# Altium footprint library Библиотека_посадочных_мест.PcbLib: 25 footprints (part 1 of 2)
Each footprint in its own frame and in the unit in brackets; x right, y up, seen from the top. Pads: shape width x height; smd on the part's side, far side on the other; paste and mask are expansions set on the pad; w line width, h text height; cw(c..) or ccw(c..) is an arc to the next point about the centre after c.
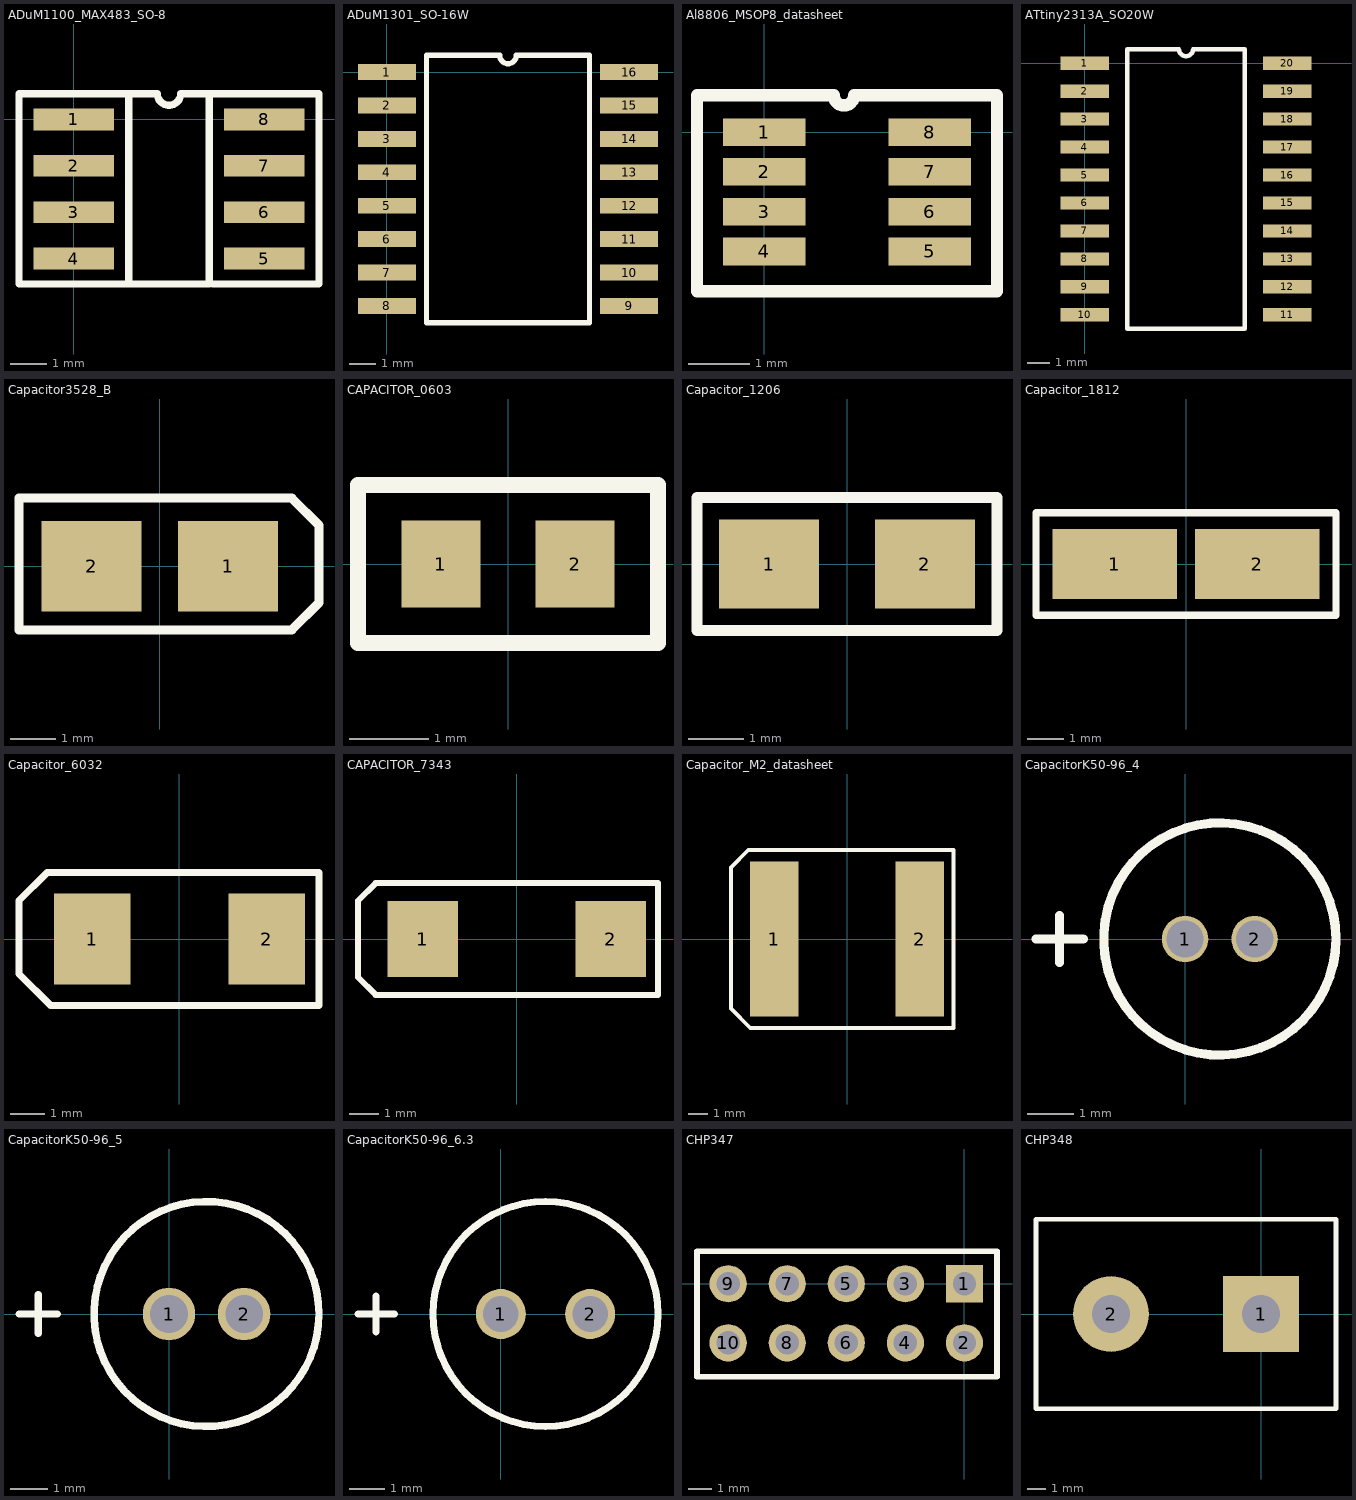
[diagram p0: the footprints below, top view; thin cyan lines are the x and y axes]

## ADuM1100_MAX483_SO-8 [mm] "ADuM1100"
pads (8):
  rect 2.2x0.6 smd: 1(0,0) 2(0,-1.27) 3(0,-2.54) 4(0,-3.81) 5(5.2,-3.81) 6(5.2,-2.54) 7(5.2,-1.27) 8(5.2,0)
Top Overlay:
  lines w0.2: 2.275,0.7 1.5,0.7 ; 2.282,0.7 ccw(c2.6,0.7) 2.917,0.7 ; 2.925,0.7 3.7,0.7 ; 3.8,-4.5 6.7,-4.5 6.7,0.7 3.7,0.7 ; 1.5,-4.5 1.5,0.7 ; 1.5,-4.5 3.7,-4.5 3.7,0.7 ; 1.5,-4.5 -1.5,-4.5 -1.5,0.7 1.5,0.7

## ADuM1301_SO-16W [mm] "ADuM1301"
pads (16):
  rect 2.2x0.6 smd: 1(0,0) 2(0,-1.27) 3(0,-2.54) 4(0,-3.81) 5(0,-5.08) 6(0,-6.35) 7(0,-7.62) 8(0,-8.89) 9(9.2,-8.89) 10(9.2,-7.62) 11(9.2,-6.35) 12(9.2,-5.08) 13(9.2,-3.81) 14(9.2,-2.54) 15(9.2,-1.27) 16(9.2,0)
Top Overlay:
  lines w0.2: 1.5,-9.525 7.7,-9.525 7.7,0.635 4.917,0.635 cw(c4.6,0.635) 4.282,0.635 1.5,0.635 1.5,-9.525

## Al8806_MSOP8_datasheet [mm]
pads (8):
  rect 1.35x0.45 smd: 1(0,0) 2(0,-0.65) 3(0,-1.3) 4(0,-1.95) 5(2.7,-1.95) 6(2.7,-1.3) 7(2.7,-0.65) 8(2.7,0)
Top Overlay:
  lines w0.2: 1.138,0.567 ccw(c1.3,0.6) 1.462,0.567 ; 1.138,0.6 -1.1,0.6 -1.1,-2.6 3.8,-2.6 3.8,0.6 1.462,0.6

## ATtiny2313A_SO20W [mm]
pads (20):
  rect 2.2x0.6 smd: 1(0,0) 2(0,-1.27) 3(0,-2.54) 4(0,-3.81) 5(0,-5.08) 6(0,-6.35) 7(0,-7.62) 8(0,-8.89) 9(0,-10.16) 10(0,-11.43) 11(9.2,-11.43) 12(9.2,-10.16) 13(9.2,-8.89) 14(9.2,-7.62) 15(9.2,-6.35) 16(9.2,-5.08) 17(9.2,-3.81) 18(9.2,-2.54) 19(9.2,-1.27) 20(9.2,0)
Top Overlay:
  lines w0.2: 1.935,-12.065 7.265,-12.065 7.265,0.635 4.917,0.635 cw(c4.6,0.635) 4.282,0.635 1.935,0.635 1.935,-12.065

## Capacitor3528_B [mm]
pads (2):
  rect 2.2x2 smd: 1(1.5,0) 2(-1.5,0)
Top Overlay:
  lines w0.2: -3.1,-1.4 -3.1,0 -3.1,1.5 2.9,1.5 3.5,0.9 3.5,-0.8 2.9,-1.4 -3.1,-1.4

## CAPACITOR_0603 [mm]
pads (2):
  rect 1x1.1 smd: 1(-0.85,0) 2(0.85,0)
Top Overlay:
  lines w0.2: -1.9,-1 -1.9,1 -1.65,1 1.65,1 1.9,1 1.9,-1 -1.9,-1

## Capacitor_1206 [mm] "С=0.1 мкФ"
pads (2):
  rect 1.8x1.6 smd: 1(-1.4,0) 2(1.4,0)
Top Overlay:
  lines w0.2: -2.7,-1.2 -2.7,-0.1 -2.7,1.2 2.7,1.2 2.7,-1.2 -2.7,-1.2

## Capacitor_1812 [mm] "С=1 мкФ"
pads (2):
  rect 3.4x1.9 smd: 1(-1.95,0) 2(1.95,0)
Top Overlay:
  lines w0.2: -4.1,-1.4 4.1,-1.4 4.1,1.4 -4.1,1.4 -4.1,0 -4.1,-1.4

## Capacitor_6032 [mm] "С=10 мкФ, U=16В,6.3 В"
pads (2):
  rect 2.2x2.6 smd: 1(-2.5,0) 2(2.5,0)
Top Overlay:
  lines w0.2: -4.6,-1 -3.7,-1.9 4,-1.9 4,-1.667 4,-1 4,0.333 4,1 4,1.5 4,1.9 -3.8,1.9 -4.6,1.1 -4.6,0 -4.6,-1

## CAPACITOR_7343 [mm] "C=10 мкФ, U=32 В"
pads (2):
  rect 2.4x2.6 smd: 1(-3.2,0) 2(3.2,0)
Top Overlay:
  lines w0.2: -5.4,-1.3 -4.8,-1.9 4.8,-1.9 4.8,1.9 -4.8,1.9 -5.4,1.3 -5.4,0 -5.4,-1.3

## Capacitor_M2_datasheet [mm]
pads (2):
  rect 2.5x8 smd: 1(-3.75,0) 2(3.75,0)
Top Overlay:
  lines w0.2: -6,-3.6 -5,-4.6 5.5,-4.6 5.5,4.6 -5.1,4.6 -6,3.7 -6,0 -6,-3.6

## CapacitorK50-96_4 [mm]
pads (2):
  round 1 hole 0.8: 1(0,0) 2(1.5,0)
Top Overlay:
  circle w0.2: c0.75,0 r2.5
  lines w0.2: -3.208,0 -2.192,0 ; -2.7,-0.508 -2.7,0.508

## CapacitorK50-96_5 [mm]
pads (2):
  round 1.4 hole 1: 1(0,0) 2(2,0)
Top Overlay:
  circle w0.2: c1,0 r3
  lines w0.2: -4,0 -2.984,0 ; -3.492,-0.508 -3.492,0.508

## CapacitorK50-96_6.3 [mm]
pads (2):
  round 1.4 hole 1: 1(0,0) 2(2.5,0)
Top Overlay:
  circle w0.2: c1.25,0 r3.15
  lines w0.2: -4,0 -2.984,0 ; -3.492,-0.508 -3.492,0.508

## CHP347 [mm] "СНП347-программирование"
pads (10):
  rect 1.6x1.6 hole 1: 1(0,0)
  round 1.6 hole 1: 2(0,-2.54) 3(-2.54,0) 4(-2.54,-2.54) 5(-5.08,0) 6(-5.08,-2.54) 7(-7.62,0) 8(-7.62,-2.54) 9(-10.16,0) 10(-10.16,-2.54)
Top Overlay:
  lines w0.254: -11.5,-4 -11.5,1.4 1.4,1.4 1.4,-4 -11.5,-4

## CHP348 [mm] "СНП348-светильник"
pads (2):
  rect 4x4 hole 2: 1(0,0)
  round 4 hole 2: 2(-7.92,0)
Top Overlay:
  lines w0.254: -11.88,-5 3.96,-5 3.96,5 -11.88,5 -11.88,-5